# Altium footprint library CUI_PRM3W-E12-D12-S.PcbLib: 1 footprints
Each footprint in its own frame and in the unit in brackets; x right, y up, seen from the top. Pads: shape width x height; smd on the part's side, far side on the other; paste and mask are expansions set on the pad; w line width, h text height; cw(c..) or ccw(c..) is an arc to the next point about the centre after c.
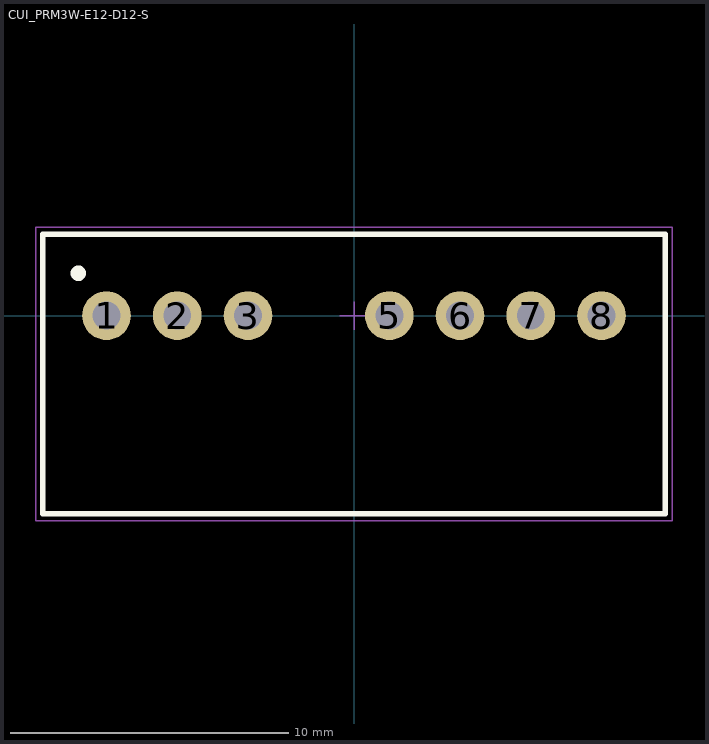
[diagram p0: the footprint, top view; thin cyan lines are the x and y axes]

## CUI_PRM3W-E12-D12-S [mm]
pads (7):
  round 1.75 hole 1: 1(-8.89,0) 2(-6.35,0) 3(-3.81,0) 5(1.27,0) 6(3.81,0) 7(6.35,0) 8(8.89,0)
Top Overlay:
  circle w0.305: c-9.906,1.524 r0.127
  lines w0.2: -11.176,-7.112 -11.176,2.921 11.176,2.921 11.176,-7.112 -11.176,-7.112
Mechanical 15:
  lines w0.05: -0.508,0 0.508,0 ; 0,-0.508 0,0.508 ; -11.43,-7.366 11.43,-7.366 11.43,3.175 -11.43,3.175 -11.43,-7.366
3D body "CUI_PRM3W-E12-D12-S.step": height 12.03, standoff -4.07, extent -11,-6.933 11,2.667